# EAGLE library part SN74LVC1G3157 (library _mtvl_ic)
ANALOG SWITCH SINGLE-POLE, DOUBLE-THROW Check prices <https://pricing.snapeda.com/parts/SN74LVC1G3157/Texas%20Instruments/view-part?ref=eda>
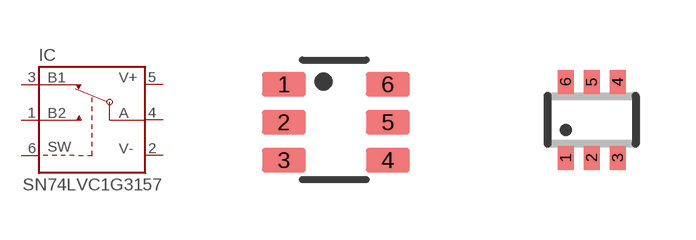
[diagram p44: symbol with the pads of SOT23-6; footprints SOT23-6, SC70-6]

Designator prefix IC

## SN74LVC1G3157DBV (AVAILABILITY: In Stock; DESCRIPTION: 1 Circuit IC Switch 2:1 15Ohm 6-X2SON (0.8x1); MF: Texas Instruments; MP: SN74LVC1G3157; PACKAGE: SC-70 Texas Instruments; PRICE: None; PURCHASE-URL: https://pricing.snapeda.com/search/part/SN74LVC1G3157/?ref=eda)  [SOT23-6]
1  B2
2  V-  pwr
3  B1
4  A
5  V+  pwr
6  S  in

## SN74LVC1G3157DCK (AVAILABILITY: In Stock; DESCRIPTION: 1 Circuit IC Switch 2:1 15Ohm 6-X2SON (0.8x1); MF: Texas Instruments; MP: SN74LVC1G3157; PACKAGE: SC-70 Texas Instruments; PRICE: None; PURCHASE-URL: https://pricing.snapeda.com/search/part/SN74LVC1G3157/?ref=eda)  [SC70-6]
Pads as for SOT23-6

## SN74LVC1G3157DRL (AVAILABILITY: In Stock; DESCRIPTION: 1 Circuit IC Switch 2:1 15Ohm 6-X2SON (0.8x1); MF: Texas Instruments; MP: SN74LVC1G3157; PACKAGE: SC-70 Texas Instruments; PRICE: None; PURCHASE-URL: https://pricing.snapeda.com/search/part/SN74LVC1G3157/?ref=eda)  [SOT-6]
Pads as for SOT23-6

## Footprint SOT23-6 (pad centres in mm)
SOT23-6 0.95 mm pitch
smd 1.1 x 0.6: 1 -1.3,0.95; 2 -1.3,0; 3 -1.3,-0.95; 4 1.3,-0.95; 5 1.3,0; 6 1.3,0.95

## Footprint SC70-6 (pad centres in mm)
SC70 - DCK 0.65 mm pitch
smd 0.4 x 0.6: 1 -0.65,-0.95; 2 0,-0.95; 3 0.65,-0.95; 4 0.65,0.95; 5 0,0.95; 6 -0.65,0.95

## Footprint SOT-6 (pad centres in mm)
SOT - DRL 0.50 mm pitch
smd 0.55 x 1.2: 1 -1,-1.5; 2 0,-1.5; 3 1,-1.5; 4 1,1.5; 5 0,1.5; 6 -1,1.5